# Altium integrated library USB1130-15-A_REVA.IntLib: 1 symbol
Pins are listed as number, name and electrical type; pins without a type are passive.

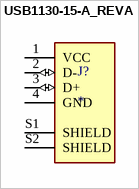
[diagram p0: symbol USB1130-15-A_REVA]

## USB1130-15-A_REVA
designator J?
MP: USB1130-15-A; MF: Global Connector Technology; SnapEDA_Link: https://www.snapeda.com/parts/USB1130-15-A/Global%20Connector%20Technology/view-part/5160678/?ref=snap; Package: None; Check_prices: https://www.snapeda.com/parts/USB1130-15-A/Global%20Connector%20Technology/view-part/5160678/?ref=eda; Value: *; Availability: Unavailable; Price: None
footprint GCT_USB1130-15-A_REVA
pins: 1 VCC (power), 2 D- (io), 3 D+ (io), 4 GND (power), S1 SHIELD, S2 SHIELD